# Altium footprint library ZYF_IC.PcbLib: 25 footprints (part 2 of 2)
Each footprint in its own frame and in the unit in brackets; x right, y up, seen from the top. Pads: shape width x height; smd on the part's side, far side on the other; paste and mask are expansions set on the pad; w line width, h text height; cw(c..) or ccw(c..) is an arc to the next point about the centre after c.
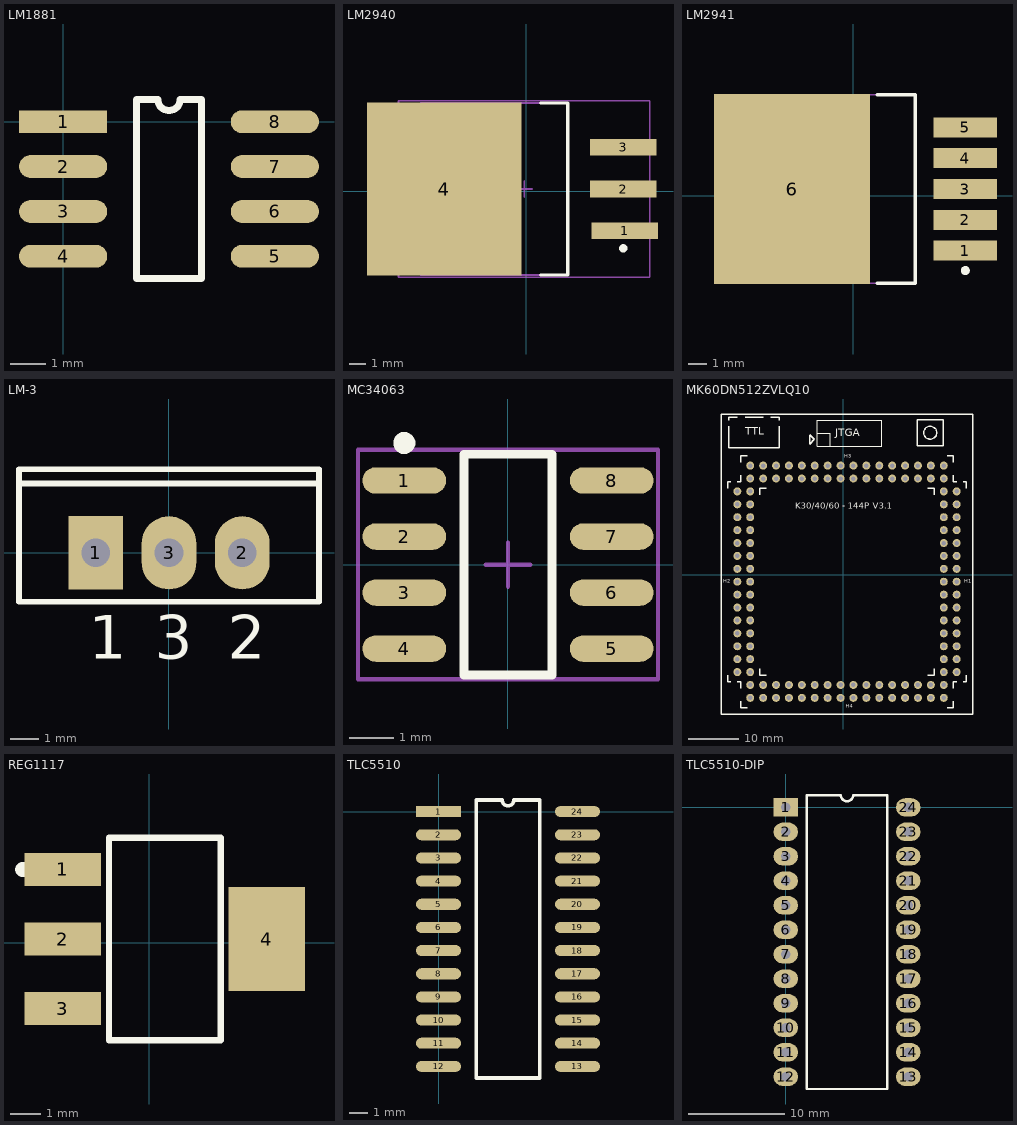
[diagram p1: the footprints below, top view; thin cyan lines are the x and y axes]

## LM1881 [mm]
pads (8):
  rect 2.5x0.65 smd: 1(0,0)
  oval 2.5x0.65 smd: 2(0,-1.27) 3(0,-2.54) 4(0,-3.81) 5(6,-3.81) 6(6,-2.54) 7(6,-1.27) 8(6,0)
Top Overlay:
  lines w0.2: 2.085,-4.445 2.085,0.635 2.682,0.635 ccw(c3,0.635) 3.317,0.635 3.915,0.635 3.915,-4.445 2.085,-4.445

## LM2940 [mil]
pads (4):
  rect 158x39.37 smd: 1(235,-95) 2(231.22,5) 3(231.22,105)
  rect 368x411.42 smd: 4(-195,5)
Top Overlay:
  circle w9.84: c231.22,-136.34 r4.92
  lines w7.87: 34.37,-199.72 99.33,-199.72 99.33,209.72 34.37,209.72
Mechanical 13:
  lines w3.94: -250.67,-199.72 99.33,-199.72 99.33,209.72 -250.67,209.72 -250.67,-199.72
Mechanical 15:
  lines w3.94: -24.68,5 14.69,5 ; -5,-14.69 -5,24.68 ; -304.21,-205.63 294.21,-205.63 294.21,215.63 -304.21,215.63 -304.21,-205.63
3D body: height 182.68, standoff 0, extent -250.65,-199.7 99.31,209.7

## LM2941 [mm]
pads (6):
  rect 3.5x1.1 smd: 1(6.177,-3.019) 2(6.177,-1.319) 3(6.177,0.381) 4(6.177,2.081) 5(6.177,3.781)
  rect 8.6x10.5 smd: 6(-3.373,0.381)
Top Overlay:
  circle w0.25: c6.177,-4.119 r0.125
  lines w0.2: 1.327,-4.819 3.427,-4.819 3.427,5.581 1.327,5.581
Mechanical 13:
  lines w0.1: -5.973,-4.819 3.427,-4.819 3.427,5.581 -5.973,5.581 -5.973,-4.819
Mechanical 15:
  lines w0.1: -0.373,0.381 0.627,0.381 ; 0.127,-0.119 0.127,0.881
3D body: height 4.65, standoff 0, extent -5.973,-4.819 3.427,5.581

## LM-3 [mil]
pads (3):
  rect 75x100 hole 39: 1(-100,0)
  oval 75x100 hole 39: 2(100,0) 3(0,0)
Top Overlay:
  lines w7.87: -204.72,94.49 204.72,94.49 ; -204.72,-66.93 -204.72,114.17 204.72,114.17 204.72,-66.93 -204.72,-66.93
  text "1" at -109.84,-144.69 h59.06
  text "2" at 80.32,-144.69 h59.06
  text "3" at -19.68,-144.69 h59.06

## MC34063 [mm]
pads (8):
  oval 1.9x0.6 smd: 1(-2.35,1.905) 2(-2.35,0.635) 3(-2.35,-0.635) 4(-2.35,-1.905) 5(2.35,-1.905) 6(2.35,-0.635) 7(2.35,0.635) 8(2.35,1.905)
Top Overlay:
  circle w0.25: c-2.35,2.755 r0.125
  lines w0.2: -1,-2.5 1,-2.5 1,2.5 -1,2.5 -1,-2.5
Mechanical 15:
  lines w0.1: -0.5,0 0.5,0 ; 0,-0.5 0,0.5 ; -3.4,-2.6 3.4,-2.6 3.4,2.6 -3.4,2.6 -3.4,-2.6

## MK60DN512ZVLQ10 [mil]
pads (124):
  round 62 hole 35: 101(880,-755) 102(780,-755) 103(880,-655) 104(780,-655) 105(880,-555) 106(780,-555) 107(880,-455) 108(780,-455) 109(880,-355) 110(780,-355) 111(880,-255) 112(780,-255) 113(880,-155) 114(780,-155) 115(880,-55) 116(780,-55) 117(880,45) 118(780,45) 119(880,145) 120(780,145) 121(880,245) 122(780,245) 123(880,345) 124(780,345) 125(880,445) 126(780,445) 127(880,545) 128(780,545) 129(880,645) 130(780,645) 201(-720,-755) 202(-820,-755) 203(-720,-655) 204(-820,-655) 205(-720,-555) 206(-820,-555) 207(-720,-455) 208(-820,-455) 209(-720,-355) 210(-820,-355) 211(-720,-255) 212(-820,-255) 213(-720,-155) 214(-820,-155) 215(-720,-55) 216(-820,-55) 217(-720,45) 218(-820,45) 219(-720,145) 220(-820,145) 221(-720,245) 222(-820,245) 223(-720,345) 224(-820,345) 225(-720,445) 226(-820,445) 227(-720,545) 228(-820,545) 229(-720,645) 230(-820,645) 301(780,845) 302(780,745) 303(680,845) 304(680,745) 305(580,845) 306(580,745) 307(480,845) 308(480,745) 309(380,845) 310(380,745) 311(280,845) 312(280,745) 313(180,845) 314(180,745) 315(80,845) 316(80,745) 317(-20,845) 318(-20,745) 319(-120,845) 320(-120,745) 321(-220,845) 322(-220,745) 323(-320,845) 324(-320,745) 325(-420,845) 326(-420,745) 327(-520,845) 328(-520,745) 329(-620,845) 330(-620,745) 331(-720,845) 332(-720,745) 401(780,-855) 402(780,-955) 403(680,-855) 404(680,-955) 405(580,-855) 406(580,-955) 407(480,-855) 408(480,-955) 409(380,-855) 410(380,-955) 411(280,-855) 412(280,-955) 413(180,-855) 414(180,-955) 415(80,-855) 416(80,-955) 417(-20,-855) 418(-20,-955) 419(-120,-855) 420(-120,-955) 421(-220,-855) 422(-220,-955) 423(-320,-855) 424(-320,-955) 425(-420,-855) 426(-420,-955) 427(-520,-855) 428(-520,-955) 429(-620,-855) 430(-620,-955) 431(-720,-855) 432(-720,-955)
Top Overlay:
  circle w10: c675,1100 r50
  lines w7.87: -200,1095 -100,1095 -100,995 ; -200,995 -200,1195 300,1195 300,995 -200,995
  lines w10: -895,-780 -895,-830 -870,-830 ; -895,670 -895,720 -870,720 ; -886.85,1150 -886.85,982.2 -493.15,982.2 -493.15,1150 ; -886.85,1195 -886.85,1218.43 -820,1218.43 ; -820,-830 -795,-830 -795,-880 ; -820,720 -795,720 -795,770 ; -795,-980 -795,-1030 -745,-1030 ; -795,870 -795,920 -745,920 ; -760,1220 -620,1220 ; -645,-730 -645,-780 -595,-780 ; -645,620 -645,670 -595,670 ; -560,1218.43 -493.15,1218.43 -493.15,1195 ; -260,1080 -260,1010 -222.5,1047.5 -257.5,1082.5 ; 655,-780 705,-780 705,-730 ; 655,670 705,670 705,620 ; 805,-1030 855,-1030 855,-980 ; 805,920 855,920 855,870 ; 855,-880 855,-830 880,-830 ; 855,770 855,720 880,720 ; 930,-830 955,-830 955,-780 ; 930,720 955,720 955,670 ; -945,-1080 -945,-455 -945,1245 1005,1245 1005,-555 1005,-1080 -945,-1080 ; 575,1000 575,1200 775,1200 775,1000 575,1000
  text "V3.1" at 230,495 h80
  text "TTL" at -760,1065 h100
  text "H3" at 10,895 h50
  text "H2" at -930,-75 h50
  text "H4" at 20,-1045 h50
  text "H1" at 940,-75 h50
  text "JTGA" at -60,1055 h100
  text "K30/40/60 - 144P" at -370,495 h80

## REG1117 [mm]
pads (4):
  rect 2.54x1.1 smd: 1(-2.867,2.427) 2(-2.867,0.127) 3(-2.867,-2.173)
  rect 2.54x3.45 smd: 4(3.883,0.127)
Top Overlay:
  circle w0.25: c-4.192,2.427 r0.125
  lines w0.2: -1.342,-3.223 -1.342,3.477 2.358,3.477 2.358,-3.223 -1.342,-3.223

## TLC5510 [mm]
pads (24):
  rect 2.5x0.61 smd: 1(0,0)
  oval 2.5x0.61 smd: 2(0,-1.28) 3(0,-2.56) 4(0,-3.84) 5(0,-5.12) 6(0,-6.4) 7(0,-7.68) 8(0,-8.96) 9(0,-10.24) 10(0,-11.52) 11(0,-12.8) 12(0,-14.08) 13(7.68,-14.08) 14(7.68,-12.8) 15(7.68,-11.52) 16(7.68,-10.24) 17(7.68,-8.96) 18(7.68,-7.68) 19(7.68,-6.4) 20(7.68,-5.12) 21(7.68,-3.84) 22(7.68,-2.56) 23(7.68,-1.28) 24(7.68,0)
Top Overlay:
  lines w0.2: 2.085,-14.72 2.085,0.64 3.52,0.64 ccw(c3.84,0.64) 4.16,0.64 5.595,0.64 5.595,-14.72 2.085,-14.72

## TLC5510-DIP [mil]
pads (24):
  rect 100x75 hole 39: 1(0,0)
  oval 100x75 hole 39: 2(0,-100) 3(0,-200) 4(0,-300) 5(0,-400) 6(0,-500) 7(0,-600) 8(0,-700) 9(0,-800) 10(0,-900) 11(0,-1000) 12(0,-1100) 13(500,-1100) 14(500,-1000) 15(500,-900) 16(500,-800) 17(500,-700) 18(500,-600) 19(500,-500) 20(500,-400) 21(500,-300) 22(500,-200) 23(500,-100) 24(500,0)
Top Overlay:
  lines w10: 85,-1150 415,-1150 415,50 275,50 cw(c250,50) 225,50 85,50 85,-1150